# EAGLE library part BQ25703ARSNR (library power_module)
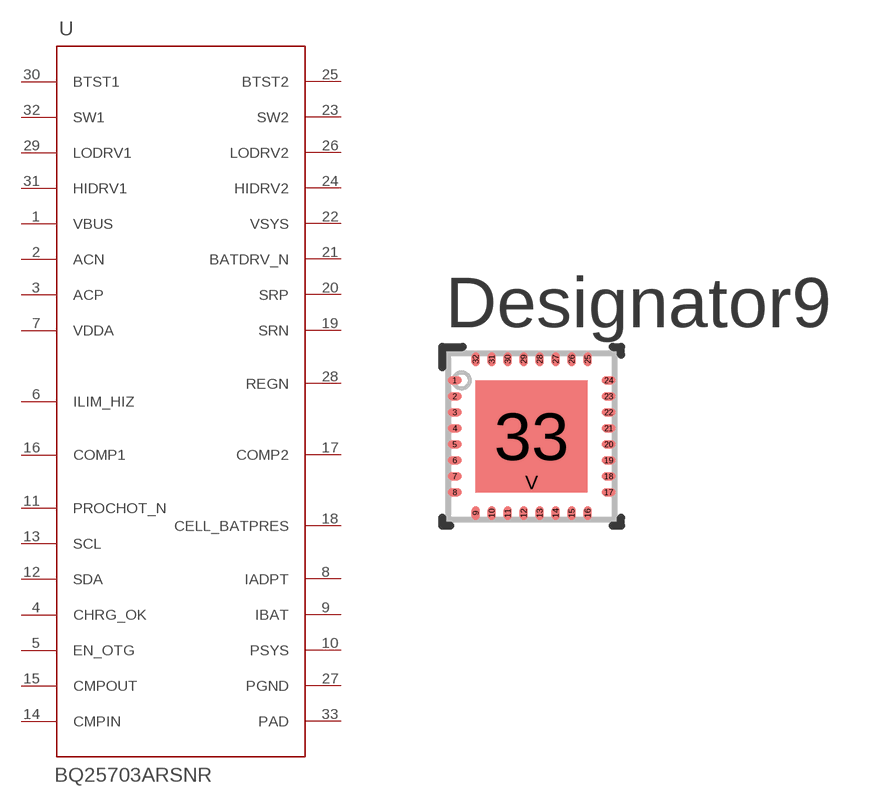
[diagram p0: symbol with the pads of RSN0032B; footprint RSN0032B]

Designator prefix U

## BQ25703ARSNR  [RSN0032B]
1  VBUS  pwr
2  ACN  in
3  ACP  in
4  CHRG_OK  oc
5  EN_OTG  in
6  ILIM_HIZ  in
7  VDDA  pwr
8  IADPT  out
9  IBAT  out
10  PSYS  out
11  PROCHOT_N  oc
12  SDA
13  SCL  in
14  CMPIN  in
15  CMPOUT  oc
16  COMP1  in
17  COMP2  in
18  CELL_BATPRES  in
19  SRN  in
20  SRP  in
21  BATDRV_N  out
22  VSYS  pwr
23  SW2  pwr
24  HIDRV2  out
25  BTST2  pwr
26  LODRV2  out
27  PGND  pwr
28  REGN  pwr
29  LODRV1  out
30  BTST1  pwr
31  HIDRV1  out
32  SW1  pwr
33  PAD  pwr

## Footprint RSN0032B (pad centres in mm)
smd 0.35 x 0.2: 1 -1.925,1.4; 2 -1.925,1; 3 -1.925,0.6; 4 -1.925,0.2; 5 -1.925,-0.2; 6 -1.925,-0.6; 7 -1.925,-1; 8 -1.925,-1.4; 17 1.925,-1.4; 18 1.925,-1; 19 1.925,-0.6; 20 1.925,-0.2; 21 1.925,0.2; 22 1.925,0.6; 23 1.925,1; 24 1.925,1.4
smd 0.2 x 0.35: 9 -1.4,-1.925; 10 -1,-1.925; 11 -0.6,-1.925; 12 -0.2,-1.925; 13 0.2,-1.925; 14 0.6,-1.925; 15 1,-1.925; 16 1.4,-1.925; 25 1.4,1.925; 26 1,1.925; 27 0.6,1.925; 28 0.2,1.925; 29 -0.2,1.925; 30 -0.6,1.925; 31 -1,1.925; 32 -1.4,1.925
smd 2.8 x 2.8: 33 0,0
smd 0.5 x 0.5: V 0,-1.15